# Altium schematic symbol library Diodes.SchLib: 91 symbols
Pins are listed as number, name and electrical type; pins without a type are passive.

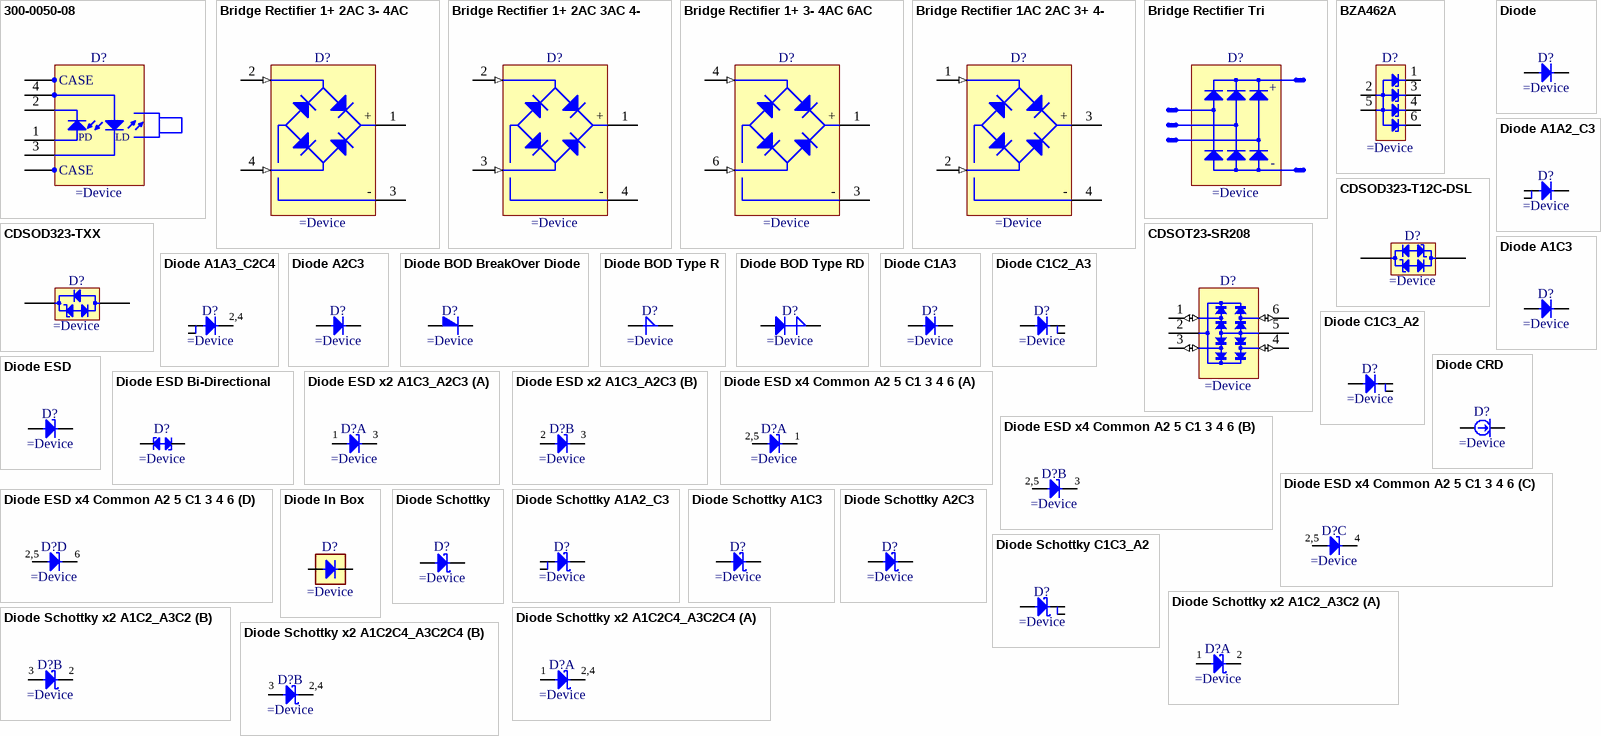
[diagram p0: symbols 300-0050-08 to Diode Schottky x2 A1C2C4_A3C2C4]

## 300-0050-08
designator D?
1310nm DFB Pigtailed Laser Diode
pins: 1 PDA, 2 PDC, 3 LDC, 4 LDA, 5 CASE, 6 CASE
text: PD; LD

## Bridge Rectifier 1+ 2AC 3- 4AC
designator D?
Bridge Rectifier 1+ 2AC 3- 4AC
pins: 1 + (power), 2 AC (in), 3 - (power), 4 AC (in)

## Bridge Rectifier 1+ 2AC 3AC 4-
designator D?
Bridge Rectifier 1+ 2AC 3AC 4-
pins: 1 + (power), 2 AC (in), 3 AC (in), 4 - (power)

## Bridge Rectifier 1+ 3- 4AC 6AC
designator D?
Bridge Rectifier 1+ 3- 4AC 6AC
pins: 1 + (power), 3 - (power), 4 AC (in), 6 AC (in)

## Bridge Rectifier 1AC 2AC 3+ 4-
designator D?
Bridge Rectifier 1AC 2AC 3+ 4-
pins: 1 AC (in), 2 AC (in), 3 + (power), 4 - (power)

## Bridge Rectifier Tri
designator D?
Bridge Rectifier Triphase
text: +; -

## BZA462A
designator D?
Quadruple ESD Transient Voltage Suppressor
pins: 1 C1, 2 A, 3 C2, 4 C3, 5 A, 6 C4

## CDSOD323-T12C-DSL
designator D?
Bi-directional ESD Protection for Transient Voltage Suppressor Diode
pins: 1 C, 2 A

## CDSOD323-TXX
designator D?
Unidirectional ESD Protection for Transient Voltage Suppressor Diode
pins: 1 C, 2 A

## CDSOT23-SR208
designator D?
Steering Diode Array
pins: 1 I/O1 (io), 2 GND (power), 3 I/O2 (io), 4 I/O3 (io), 5 VBUS (power), 6 I/O4 (io)

## Diode
designator D?
Diode
pins: 1 C, 2 A

## Diode A1A2_C3
designator D?
Diode Anode pin 1 and 2 Cathode pin 3
pins: 1 A, 2 A, 3 C

## Diode A1A3_C2C4
designator D?
Diode Anode pin 1 and 3 Cathode pin 2 and 4
pins: 1 A, 2 C, 3 A, 4 C
text: 2,4

## Diode A1C3
designator D?
Diode Anode Pin 1 Cathode Pin 3 (Pas de pin 2)
pins: 1 A, 3 C

## Diode A2C3
designator D?
Diode Anode Pin 2 Cathode Pin 3 (pin 2 Not Connected)
pins: 2 A, 3 C

## Diode BOD BreakOver Diode
designator D?
Breakover Diode
pins: 1 C, 2 A

## Diode BOD Type R
designator D?
Breakover Diode Type R
pins: 1 C, 2 A

## Diode BOD Type RD
designator D?
Breakover Diode Type RD
pins: 1 C, 2 A

## Diode C1A3
designator D?
Diode Anode Pin 3 Cathode Pin 1 (Pas de pin 2)
pins: 1 C, 3 A

## Diode C1C2_A3
designator D?
Diode cathode pin 1 and 2 Anode pin 3
pins: 1 C, 2 C, 3 A

## Diode C1C3_A2
designator D?
Diode Cathode Pin 1 and 3 Anode Pin 2
pins: 1 C, 2 A, 3 C

## Diode CRD
designator D?
Current Regulator Diode
pins: 1 C, 2 A

## Diode ESD
designator D?
ESD protection diode
pins: 1 C, 2 A

## Diode ESD Bi-Directional
designator D?
Bi-Directional ESD Protection Diode
pins: 1 C, 2 C

## Diode ESD x2 A1C3_A2C3
designator D?
Dual Common Cathode ESD Protection Diodes
part A pins: 1 A, 3 COMC
part B pins: 2 A, 3 COMC

## Diode ESD x4 Common A2 5 C1 3 4 6
designator D?
Quad Common Anode ESD Protection Diodes (30kV)
pins on every part: 2 A, 5 A
part A pins: 1 C
part B pins: 3 C
part C pins: 4 C
part D pins: 6 C
part A text: 2,5
part B text: 2,5
part C text: 2,5
part D text: 2,5

## Diode In Box
designator D?
Diode Into a Box
pins: 1 C, 2 A

## Diode Schottky
designator D?
Schottky Diode
pins: 1 C, 2 A

## Diode Schottky A1A2_C3
designator D?
Diode  Schottky Anode pin 1 and 2 cathode pin 3
pins: 1 A, 2 A, 3 C

## Diode Schottky A1C3
designator D?
Diode Schottky  Anode Pin 1 Cathode Pin 3 (Pas de pin 2)
pins: 1 A, 3 C

## Diode Schottky A2C3
designator D?
Diode Schottky Anode Pin 2 Cathode Pin 3 (pin 2 Not Connected)
pins: 2 A, 3 C

## Diode Schottky C1C3_A2
designator D?
Diode Schottky Cathode Pin 1 and 3 Anode Pin 2
pins: 1 C, 2 A, 3 C

## Diode Schottky x2 A1C2_A3C2
designator D?
Dual Common Cathode Schottky Diodes
part A pins: 1 A, 2 COMC
part B pins: 2 COMC, 3 A

## Diode Schottky x2 A1C2C4_A3C2C4
designator D?
Dual Common Cathode Schottky Diodes
part A pins: 1 A, 2 COMC, 4 COMC
part B pins: 2 COMC, 3 A, 4 COMC
part A text: 2,4
part B text: 2,4

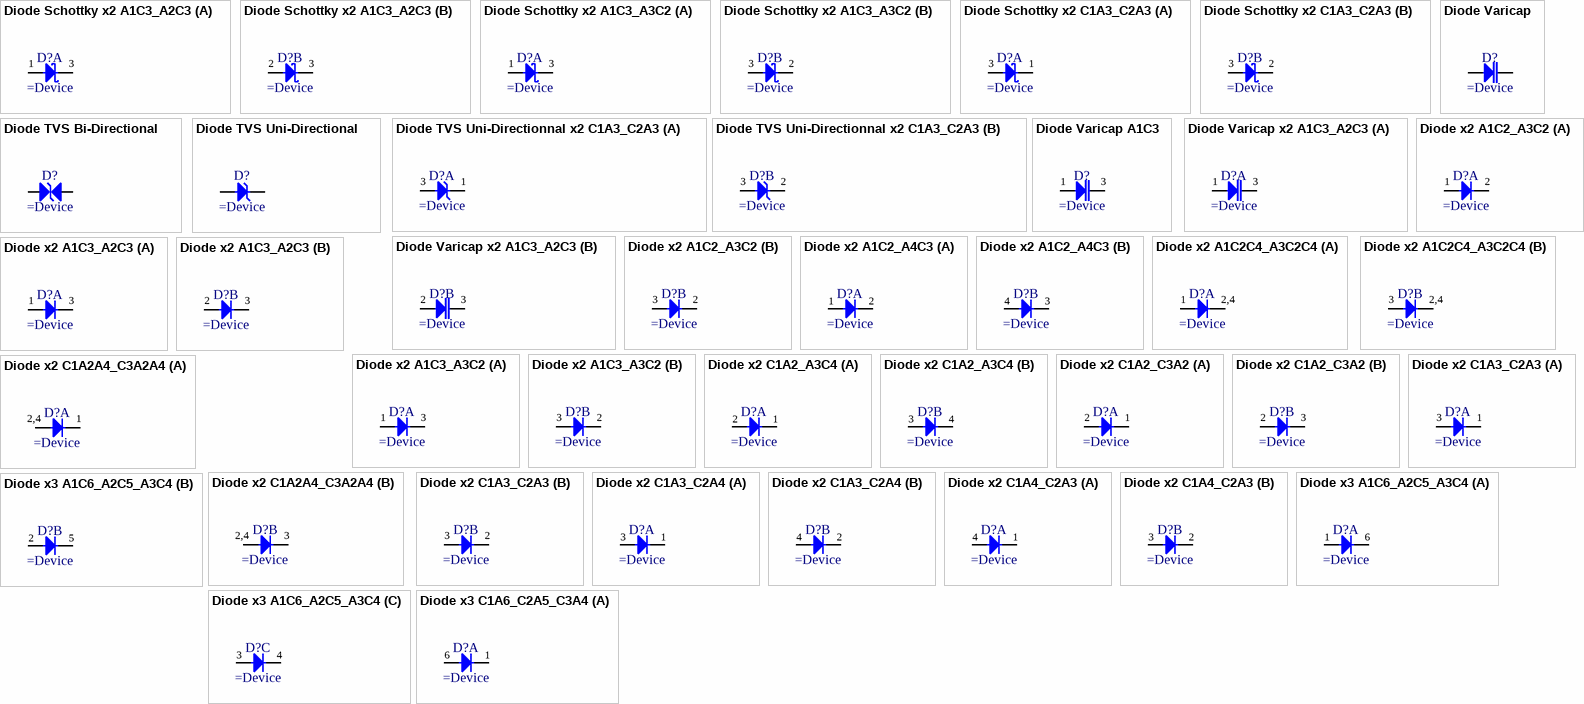
[diagram p1: symbols Diode Schottky x2 A1C3_A2C3 to Diode x3 C1A6_C2A5_C3A4]

## Diode Schottky x2 A1C3_A2C3
designator D?
Dual Common Cathode Schottky Diodes
part A pins: 1 A, 3 COMC
part B pins: 2 A, 3 COMC

## Diode Schottky x2 A1C3_A3C2
designator D?
Serial Schottky Diode
part A pins: 1 A, 3 COMAC
part B pins: 2 C, 3 COMAC

## Diode Schottky x2 C1A3_C2A3
designator D?
Dual Common Anode Schottky Diode
part A pins: 1 C, 3 COMA
part B pins: 2 C, 3 COMA

## Diode TVS Bi-Directional
designator D?
Transient Voltage Suppressor Diode (Bi-Directional)
pins: 1 C, 2 A

## Diode TVS Uni-Directional
designator D?
Transient Voltage Suppressor Diode (Uni-Directional)
pins: 1 C, 2 A

## Diode TVS Uni-Directionnal x2 C1A3_C2A3
designator D?
Dual Common Anode TVS
part A pins: 1 C, 3 COMA
part B pins: 2 C, 3 COMA

## Diode Varicap
designator D?
Diode Varicap  Anode Pin 1 Cathode Pin 3 (Pas de pin 2)
pins: 1 C, 2 A

## Diode Varicap A1C3
designator D?
Diode Varicap  Anode Pin 1 Cathode Pin 3 (Pas de pin 2)
pins: 1 A, 3 C

## Diode Varicap x2 A1C3_A2C3
designator D?
Dual Common Cathode Varicap Diodes
part A pins: 1 A, 3 COMC
part B pins: 2 A, 3 COMC

## Diode x2 A1C2_A3C2
designator D?
Dual Common Cathode Diodes
part A pins: 1 A, 2 COMC
part B pins: 2 COMC, 3 A

## Diode x2 A1C2_A4C3
designator D?
Dual Diode
part A pins: 1 A, 2 C
part B pins: 3 C, 4 A

## Diode x2 A1C2C4_A3C2C4
designator D?
Dual Common Cathode Diodes
part A pins: 1 A, 2 COMC, 4 COMC
part B pins: 2 COMC, 3 A, 4 COMC
part A text: 2,4
part B text: 2,4

## Diode x2 A1C3_A2C3
designator D?
Dual Common Cathode Diodes
part A pins: 1 A, 3 COMC
part B pins: 2 A, 3 COMC

## Diode x2 A1C3_A3C2
designator D?
Serial Diode
part A pins: 1 A, 3 COMAC
part B pins: 2 C, 3 COMAC

## Diode x2 C1A2_A3C4
designator D?
Dual Diode
part A pins: 1 C, 2 A
part B pins: 3 A, 4 C

## Diode x2 C1A2_C3A2
designator D?
Dual Common Anode Diodes
part A pins: 1 C, 2 COMA
part B pins: 2 COMA, 3 C

## Diode x2 C1A2A4_C3A2A4
designator D?
Dual Common Anode Diodes
part A pins: 1 C, 2 COMA, 4 COMA
part B pins: 2 COMA, 3 C, 4 COMA
part A text: 2,4
part B text: 2,4

## Diode x2 C1A3_C2A3
designator D?
Dual Common Anode Diodes
part A pins: 1 C, 3 COMA
part B pins: 2 C, 3 COMA

## Diode x2 C1A3_C2A4
designator D?
Dual Diode
part A pins: 1 C, 3 A
part B pins: 2 C, 4 A

## Diode x2 C1A4_C2A3
designator D?
Dual Diode
part A pins: 1 C, 4 A
part B pins: 2 C, 3 A

## Diode x3 A1C6_A2C5_A3C4
designator D?
Triple Isolated Diode
part A pins: 1 A, 6 C
part B pins: 2 A, 5 C
part C pins: 3 A, 4 C

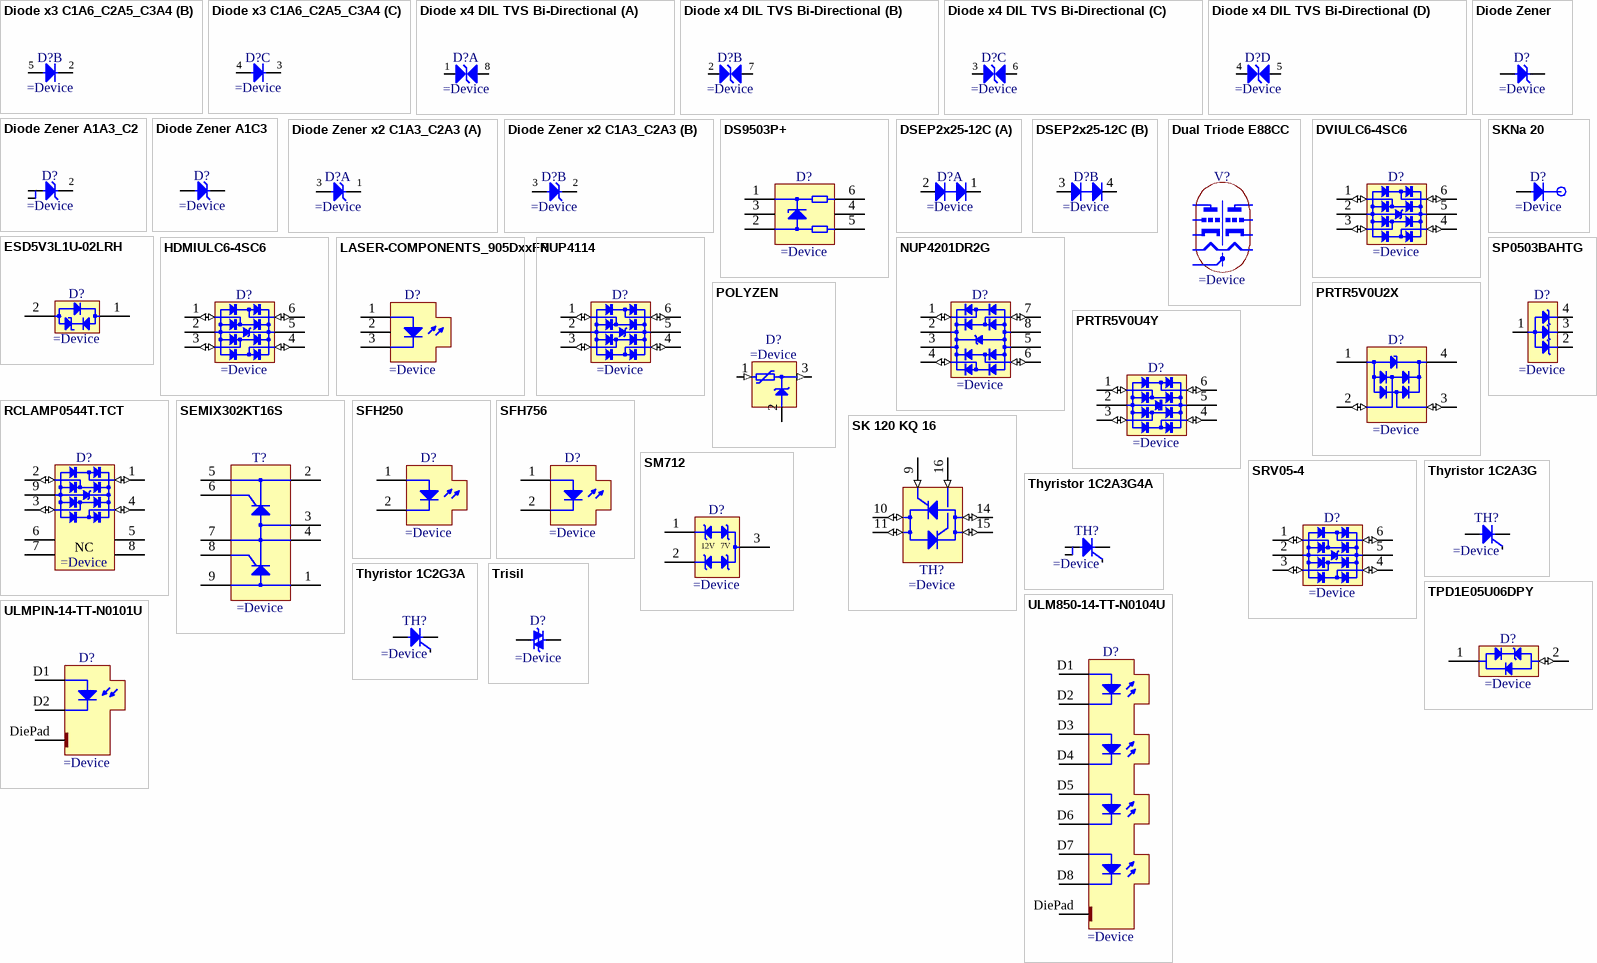
[diagram p2: symbols Diode x3 C1A6_C2A5_C3A4 to ULMPIN-14-TT-N0101U]

## Diode x3 C1A6_C2A5_C3A4
designator D?
Triple Isolated Diode
part A pins: 1 C, 6 A
part B pins: 2 C, 5 A
part C pins: 3 C, 4 A

## Diode x4 DIL TVS Bi-Directional
designator D?
Transient Voltage Suppressor Diode (Bi-Directional) Array
part A pins: 1 A, 8 C
part B pins: 2 A, 7 C
part C pins: 3 A, 6 C
part D pins: 4 A, 5 C

## Diode Zener
designator D?
Zener Diode
pins: 1 C, 2 A

## Diode Zener A1A3_C2
designator D?
Diode Anode pin 1 and 3 Cathode pin 2
pins: 1 A, 2 C, 3 A

## Diode Zener A1C3
designator D?
Diode Zener Anode Pin 1 Cathode Pin 3 (Pas de pin 2)
pins: 1 A, 3 C

## Diode Zener x2 C1A3_C2A3
designator D?
Dual Common Anode Zener Diode
part A pins: 1 C, 3 COMA
part B pins: 2 C, 3 COMA

## DS9503P+
designator D?
ESD Protection Diode with Resistors
pins: 1 K, 2 A, 3 NC, 4 NC, 5 RA, 6 RK

## DSEP2x25-12C
designator D?
High Performance Dynamic Fast Recovery Diode Extreme Low Loss and Soft Recovery Parallel legs with series connected dice
part A pins: 1 C, 2 A
part B pins: 3 A, 4 C

## Dual Triode E88CC
designator V?
Dual Triode

## DVIULC6-4SC6
designator D?
Ultralow capacitance ESD protection
pins: 1 I/O1 (io), 2 GND (power), 3 I/O2 (io), 4 I/O3 (io), 5 VBUS (power), 6 I/O4 (io)

## ESD5V3L1U-02LRH
designator D?
30kV ESD Low Capacitance TVS Diode
pins: 1 GND, 2 I/O1

## HDMIULC6-4SC6
designator D?
Ultra Large Bandwidth HDMI ESD Protection
pins: 1 I/O1 (io), 2 GND (power), 3 I/O2 (io), 4 I/O3 (io), 5 VBUS (power), 6 I/O4 (io)

## LASER-COMPONENTS_905DxxFP
designator D?
905nm Fiber Pigtailed Pulsed Laser Diode 905 XX FP-Series
pins: 1 A, 2 NC, 3 C

## NUP4114
designator D?
pins: 1 I/O1 (io), 2 GND (power), 3 I/O2 (io), 4 I/O3 (io), 5 VBUS (power), 6 I/O4 (io)

## NUP4201DR2G
designator D?
Low Capacitance Surface Mount TVS for High Speed Data Interfaces
pins: 1 I/O1 (io), 2 REF1 (power), 3 REF1 (power), 4 I/O2 (io), 5 REF2 (power), 6 I/O3 (io), 7 I/O4 (io), 8 REF2 (power)

## POLYZEN
designator D?
Polymer Protected Zener Diode
pins: 1 VIN (in), 2 GND (power), 3 VOUT (out)

## PRTR5V0U2X
designator D?
Ultra Low Capacitance Double Rail-to-Rail ESD Protection Diode
pins: 1 GND (power), 2 I/O1 (io), 3 I/O2 (io), 4 VCC (power)

## PRTR5V0U4Y
designator D?
Integrated Quad Ultra-Low Capacitance ESD Protection
pins: 1 I/O1 (io), 2 GND (power), 3 I/O2 (io), 4 I/O3 (io), 5 VBUS (power), 6 I/O4 (io)

## RCLAMP0544T.TCT
designator D?
Ultra Large Bandwidth HDMI ESD Protection
pins: 1 I/O1 (io), 2 I/O2 (io), 3 I/O3 (io), 4 I/O4 (io), 5 NC, 6 NC, 7 NC, 8 NC, 9 GND (power)
1 alternate drawing of the same symbol

## SEMIX302KT16S
designator T?
1600V 300A Rectifier Thyristor Module
pins: 1 A1, 2 C2, 3 C1A2, 4 C1A2, 5 C2, 6 G2, 7 C1, 8 G1, 9 A1

## SFH250
designator D?
Fiber Optic Photodiode
pins: 1 A, 2 C

## SFH756
designator D?
Fiber Optic Photodiode
pins: 1 A, 2 C

## SK 120 KQ 16
designator TH?
Antiparallel Thyristor Module
pins: 9 G1 (in), 10 C1A2 (io), 11 A2C1 (io), 14 A1C2 (io), 15 C2A1 (io), 16 G2 (in)

## SKNa 20
designator D?
Diode
pins: 1 A

## SM712
designator D?
Asymmetrical TVS Diode for Extended Common-Mode RS-485
pins: 1 I/O1, 2 I/O2, 3 GND
text: 12V; 7V

## SP0503BAHTG
designator D?
30pF 30kV Unidirectional TVS Array, SP05 Series
pins: 1 A, 2 C3, 3 C2, 4 C1

## SRV05-4
designator D?
RailClamps Low Capacitance TVS Diode Array
pins: 1 I/O1 (io), 2 GND (power), 3 I/O2 (io), 4 I/O3 (io), 5 VBUS (power), 6 I/O4 (io)

## Thyristor 1C2A3G
designator TH?
Thyristors
pins: 1 C, 2 A, 3 G

## Thyristor 1C2A3G4A
designator TH?
Thyristors
pins: 1 C, 2 A, 3 G, 4 A

## Thyristor 1C2G3A
designator TH?
Thyristors
pins: 1 C, 2 G, 3 A

## TPD1E05U06DPY
designator D?
1 Channel ESD Protection Device for Super-Speed (up to 6 Gbps) Interface
pins: 1 IO (power), 2 GND (io)

## Trisil
designator D?
Thyristor Surge Protection Device (Trisil)
pins: 1 C, 2 A

## ULM850-14-TT-N0104U
designator D?
14 Gbps VCSEL 850nm Vertical Cavity Surface-Emitting Laser, Quad Channel
pins: D1, D2, D3, D4, D5, D6, D7, D8, DiePad

## ULMPIN-14-TT-N0101U
designator D?
14 Gbps PIN Photodiode Chip, Single Channel
pins: D1, D2, DiePad

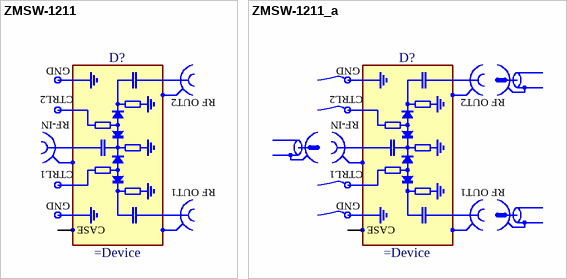
[diagram p3: symbols ZMSW-1211 to ZMSW-1211_a]

## ZMSW-1211
designator D?
10 to 2500MHZ, 50 Ohm SPDT Pin Diode Reflective
pins: 1
text: GND; CTRL2; RF OUT2; RF-IN; CTRL1; RF OUT1; CASE

## ZMSW-1211_a
designator D?
10 to 2500MHZ, 50 Ohm SPDT Pin Diode Reflective
pins: 1
text: GND; CTRL2; RF OUT2; RF-IN; CTRL1; RF OUT1; CASE